# Altium schematic symbol library Simulation.SchLib: 2 symbols
Pins are listed as number, name and electrical type; pins without a type are passive.

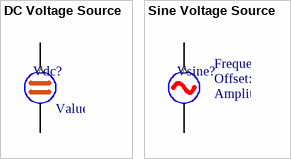
[diagram p0: symbols DC Voltage Source to Sine Voltage Source]

## DC Voltage Source
designator Vdc?  value 1  (hidden comment: *)
simulation model Model Name (Model Description)
pins: 1 (out), 2 (power)

## Sine Voltage Source
designator Vsine?  Offset: 0  Amplitude: 1  Frequency: 1k  (hidden comment: *)
simulation model Model Name (Model Description)
pins: 1 (out), 2 (power)